# EAGLE library part ZIVA-PC (library zivapc)
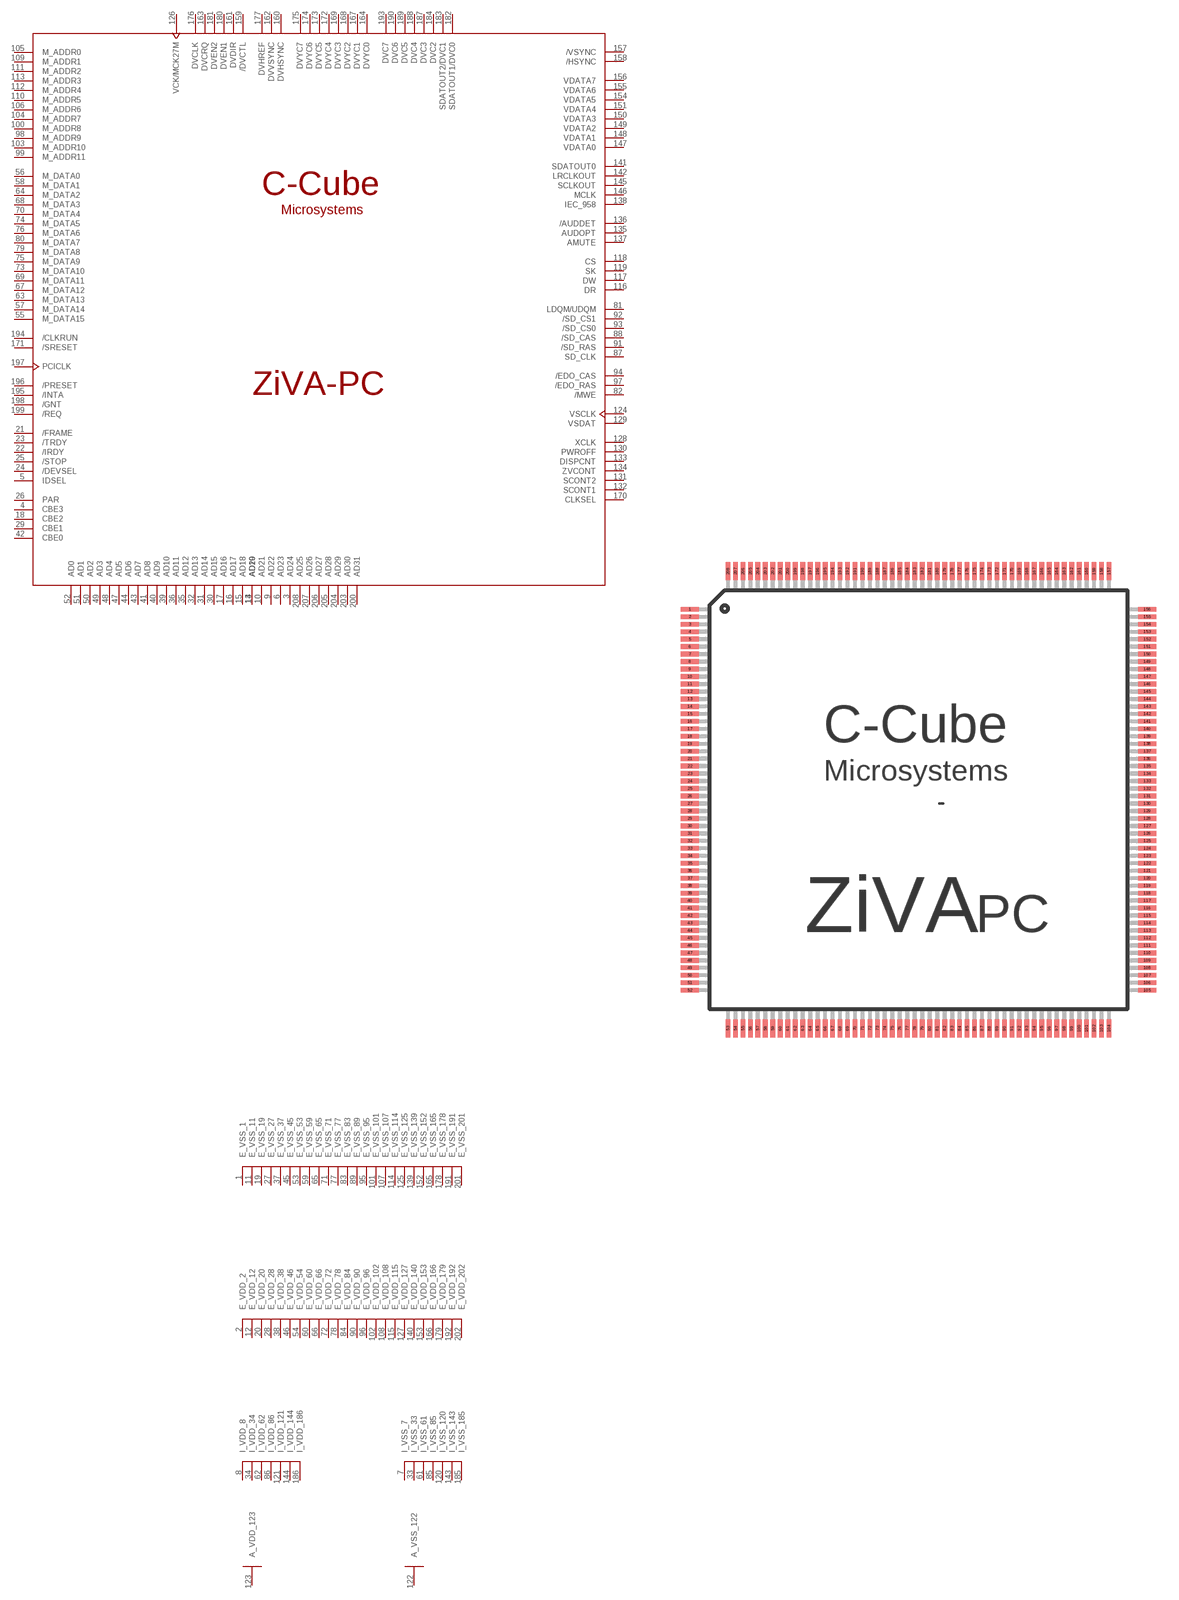
[diagram p0: symbol with the pads of PQFP208; footprint PQFP208]

Designator prefix -; gates G$1=ZIVA-PC G$2=ZIVA_PC_PWR

## ZIVA-PC  [PQFP208]
1  G$2:E_VSS_1  pwr
2  G$2:E_VDD_2  pwr
3  G$1:AD24
4  G$1:CBE3
5  G$1:IDSEL  out
6  G$1:AD23
7  G$2:I_VSS_7  pwr
8  G$2:I_VDD_8  pwr
9  G$1:AD22
10  G$1:AD21
11  G$2:E_VSS_11  pwr
12  G$2:E_VDD_12  pwr
13  G$1:AD20
14  G$1:AD19
15  G$1:AD18
16  G$1:AD17
17  G$1:AD16
18  G$1:CBE2
19  G$2:E_VSS_19  pwr
20  G$2:E_VDD_20  pwr
21  G$1:/FRAME
22  G$1:/IRDY
23  G$1:/TRDY
24  G$1:/DEVSEL
25  G$1:/STOP
26  G$1:PAR
27  G$2:E_VSS_27  pwr
28  G$2:E_VDD_28  pwr
29  G$1:CBE1
30  G$1:AD15
31  G$1:AD14
32  G$1:AD13
33  G$2:I_VSS_33  pwr
34  G$2:I_VDD_34  pwr
35  G$1:AD12
36  G$1:AD11
37  G$2:E_VSS_37  pwr
38  G$2:E_VDD_38  pwr
39  G$1:AD10
40  G$1:AD9
41  G$1:AD8
42  G$1:CBE0
43  G$1:AD7
44  G$1:AD6
45  G$2:E_VSS_45  pwr
46  G$2:E_VDD_46  pwr
47  G$1:AD5
48  G$1:AD4
49  G$1:AD3
50  G$1:AD2
51  G$1:AD1
52  G$1:AD0
53  G$2:E_VSS_53  pwr
54  G$2:E_VDD_54  pwr
55  G$1:M_DATA15
56  G$1:M_DATA0
57  G$1:M_DATA14
58  G$1:M_DATA1
59  G$2:E_VSS_59  pwr
60  G$2:E_VDD_60  pwr
61  G$2:I_VSS_61  pwr
62  G$2:I_VDD_62  pwr
63  G$1:M_DATA13
64  G$1:M_DATA2
65  G$2:E_VSS_65  pwr
66  G$2:E_VDD_66  pwr
67  G$1:M_DATA12
68  G$1:M_DATA3
69  G$1:M_DATA11
70  G$1:M_DATA4
71  G$2:E_VSS_71  pwr
72  G$2:E_VDD_72  pwr
73  G$1:M_DATA10
74  G$1:M_DATA5
75  G$1:M_DATA9
76  G$1:M_DATA6
77  G$2:E_VSS_77  pwr
78  G$2:E_VDD_78  pwr
79  G$1:M_DATA8
80  G$1:M_DATA7
81  G$1:LDQM/UDQM  out
82  G$1:/MWE  out
83  G$2:E_VSS_83  pwr
84  G$2:E_VDD_84  pwr
85  G$2:I_VSS_85  pwr
86  G$2:I_VDD_86  pwr
87  G$1:SD_CLK  out
88  G$1:/SD_CAS  out
89  G$2:E_VSS_89  pwr
90  G$2:E_VDD_90  pwr
91  G$1:/SD_RAS  out
92  G$1:/SD_CS1  out
93  G$1:/SD_CS0  out
94  G$1:/EDO_CAS  out
95  G$2:E_VSS_95  pwr
96  G$2:E_VDD_96  pwr
97  G$1:/EDO_RAS  out
98  G$1:M_ADDR9
99  G$1:M_ADDR11
100  G$1:M_ADDR8
101  G$2:E_VSS_101  pwr
102  G$2:E_VDD_102  pwr
103  G$1:M_ADDR10
104  G$1:M_ADDR7
105  G$1:M_ADDR0
106  G$1:M_ADDR6
107  G$2:E_VSS_107  pwr
108  G$2:E_VDD_108  pwr
109  G$1:M_ADDR1
110  G$1:M_ADDR5
111  G$1:M_ADDR2
112  G$1:M_ADDR4
113  G$1:M_ADDR3
114  G$2:E_VSS_114  pwr
115  G$2:E_VDD_115  pwr
116  G$1:DR  in
117  G$1:DW  out
118  G$1:CS  out
119  G$1:SK  out
120  G$2:I_VSS_120  pwr
121  G$2:I_VDD_121  pwr
122  G$2:A_VSS_122  pwr
123  G$2:A_VDD_123  pwr
124  G$1:VSCLK  in
125  G$2:E_VSS_125  pwr
126  G$1:VCK/MCK27M  in
127  G$2:E_VDD_127  pwr
128  G$1:XCLK
129  G$1:VSDAT
130  G$1:PWROFF
131  G$1:SCONT2
132  G$1:SCONT1
133  G$1:DISPCNT
134  G$1:ZVCONT
135  G$1:AUDOPT
136  G$1:/AUDDET
137  G$1:AMUTE  out
138  G$1:IEC_958  out
139  G$2:E_VSS_139  pwr
140  G$2:E_VDD_140  pwr
141  G$1:SDATOUT0  out
142  G$1:LRCLKOUT  out
143  G$2:I_VSS_143  pwr
144  G$2:I_VDD_144  pwr
145  G$1:SCLKOUT  out
146  G$1:MCLK
147  G$1:VDATA0
148  G$1:VDATA1
149  G$1:VDATA2
150  G$1:VDATA3
151  G$1:VDATA4
152  G$2:E_VSS_152  pwr
153  G$2:E_VDD_153  pwr
154  G$1:VDATA5
155  G$1:VDATA6
156  G$1:VDATA7
157  G$1:/VSYNC  in
158  G$1:/HSYNC  in
159  G$1:/DVCTL
160  G$1:DVHSYNC
161  G$1:DVDIR
162  G$1:DVVSYNC
163  G$1:DVCRQ
164  G$1:DVYC0
165  G$2:E_VSS_165  pwr
166  G$2:E_VDD_166  pwr
167  G$1:DVYC1
168  G$1:DVYC2
169  G$1:DVYC3
170  G$1:CLKSEL
171  G$1:/SRESET
172  G$1:DVYC4
173  G$1:DVYC5
174  G$1:DVYC6
175  G$1:DVYC7
176  G$1:DVCLK
177  G$1:DVHREF
178  G$2:E_VSS_178  pwr
179  G$2:E_VDD_179  pwr
180  G$1:DVEN1
181  G$1:DVEN2
182  G$1:SDATOUT1/DVC0
183  G$1:SDATOUT2/DVC1
184  G$1:DVC2  out
185  G$2:I_VSS_185  pwr
186  G$2:I_VDD_186  pwr
187  G$1:DVC3
188  G$1:DVC4
189  G$1:DVC5
190  G$1:DVC6
191  G$2:E_VSS_191  pwr
192  G$2:E_VDD_192  pwr
193  G$1:DVC7
194  G$1:/CLKRUN
195  G$1:/INTA  out
196  G$1:/PRESET
197  G$1:PCICLK  in
198  G$1:/GNT
199  G$1:/REQ
200  G$1:AD31
201  G$2:E_VSS_201  pwr
202  G$2:E_VDD_202  pwr
203  G$1:AD30
204  G$1:AD29
205  G$1:AD28
206  G$1:AD27
207  G$1:AD26
208  G$1:AD25

## Footprint PQFP208 (pad centres in mm)
Plastic Quad Flat Pack
smd 1.2 x 0.32: 1 -15.3,12.75; 2 -15.3,12.25; 3 -15.3,11.75; 4 -15.3,11.25; 5 -15.3,10.75; 6 -15.3,10.25; 7 -15.3,9.75; 8 -15.3,9.25; 9 -15.3,8.75; 10 -15.3,8.25; 11 -15.3,7.75; 12 -15.3,7.25; 13 -15.3,6.75; 14 -15.3,6.25; 15 -15.3,5.75; 16 -15.3,5.25; 17 -15.3,4.75; 18 -15.3,4.25; 19 -15.3,3.75; 20 -15.3,3.25; 21 -15.3,2.75; 22 -15.3,2.25; 23 -15.3,1.75; 24 -15.3,1.25; 25 -15.3,0.75; 26 -15.3,0.25; 27 -15.3,-0.25; 28 -15.3,-0.75; 29 -15.3,-1.25; 30 -15.3,-1.75; 31 -15.3,-2.25; 32 -15.3,-2.75; 33 -15.3,-3.25; 34 -15.3,-3.75; 35 -15.3,-4.25; 36 -15.3,-4.75; 37 -15.3,-5.25; 38 -15.3,-5.75; 39 -15.3,-6.25; 40 -15.3,-6.75; 41 -15.3,-7.25; 42 -15.3,-7.75; 43 -15.3,-8.25; 44 -15.3,-8.75; 45 -15.3,-9.25; 46 -15.3,-9.75; 47 -15.3,-10.25; 48 -15.3,-10.75; 49 -15.3,-11.25; 50 -15.3,-11.75; 51 -15.3,-12.25; 52 -15.3,-12.75; 105 15.3,-12.75; 106 15.3,-12.25; 107 15.3,-11.75; 108 15.3,-11.25; 109 15.3,-10.75; 110 15.3,-10.25; 111 15.3,-9.75; 112 15.3,-9.25; 113 15.3,-8.75; 114 15.3,-8.25; 115 15.3,-7.75; 116 15.3,-7.25; 117 15.3,-6.75; 118 15.3,-6.25; 119 15.3,-5.75; 120 15.3,-5.25; 121 15.3,-4.75; 122 15.3,-4.25; 123 15.3,-3.75; 124 15.3,-3.25; 125 15.3,-2.75; 126 15.3,-2.25; 127 15.3,-1.75; 128 15.3,-1.25; 129 15.3,-0.75; 130 15.3,-0.25; 131 15.3,0.25; 132 15.3,0.75; 133 15.3,1.25; 134 15.3,1.75; 135 15.3,2.25; 136 15.3,2.75; 137 15.3,3.25; 138 15.3,3.75; 139 15.3,4.25; 140 15.3,4.75; 141 15.3,5.25; 142 15.3,5.75; 143 15.3,6.25; 144 15.3,6.75; 145 15.3,7.25; 146 15.3,7.75; 147 15.3,8.25; 148 15.3,8.75; 149 15.3,9.25; 150 15.3,9.75; 151 15.3,10.25; 152 15.3,10.75; 153 15.3,11.25; 154 15.3,11.75; 155 15.3,12.25; 156 15.3,12.75
smd 0.32 x 1.2: 53 -12.75,-15.3; 54 -12.25,-15.3; 55 -11.75,-15.3; 56 -11.25,-15.3; 57 -10.75,-15.3; 58 -10.25,-15.3; 59 -9.75,-15.3; 60 -9.25,-15.3; 61 -8.75,-15.3; 62 -8.25,-15.3; 63 -7.75,-15.3; 64 -7.25,-15.3; 65 -6.75,-15.3; 66 -6.25,-15.3; 67 -5.75,-15.3; 68 -5.25,-15.3; 69 -4.75,-15.3; 70 -4.25,-15.3; 71 -3.75,-15.3; 72 -3.25,-15.3; 73 -2.75,-15.3; 74 -2.25,-15.3; 75 -1.75,-15.3; 76 -1.25,-15.3; 77 -0.75,-15.3; 78 -0.25,-15.3; 79 0.25,-15.3; 80 0.75,-15.3; 81 1.25,-15.3; 82 1.75,-15.3; 83 2.25,-15.3; 84 2.75,-15.3; 85 3.25,-15.3; 86 3.75,-15.3; 87 4.25,-15.3; 88 4.75,-15.3; 89 5.25,-15.3; 90 5.75,-15.3; 91 6.25,-15.3; 92 6.75,-15.3; 93 7.25,-15.3; 94 7.75,-15.3; 95 8.25,-15.3; 96 8.75,-15.3; 97 9.25,-15.3; 98 9.75,-15.3; 99 10.25,-15.3; 100 10.75,-15.3; 101 11.25,-15.3; 102 11.75,-15.3; 103 12.25,-15.3; 104 12.75,-15.3; 157 12.75,15.3; 158 12.25,15.3; 159 11.75,15.3; 160 11.25,15.3; 161 10.75,15.3; 162 10.25,15.3; 163 9.75,15.3; 164 9.25,15.3; 165 8.75,15.3; 166 8.25,15.3; 167 7.75,15.3; 168 7.25,15.3; 169 6.75,15.3; 170 6.25,15.3; 171 5.75,15.3; 172 5.25,15.3; 173 4.75,15.3; 174 4.25,15.3; 175 3.75,15.3; 176 3.25,15.3; 177 2.75,15.3; 178 2.25,15.3; 179 1.75,15.3; 180 1.25,15.3; 181 0.75,15.3; 182 0.25,15.3; 183 -0.25,15.3; 184 -0.75,15.3; 185 -1.25,15.3; 186 -1.75,15.3; 187 -2.25,15.3; 188 -2.75,15.3; 189 -3.25,15.3; 190 -3.75,15.3; 191 -4.25,15.3; 192 -4.75,15.3; 193 -5.25,15.3; 194 -5.75,15.3; 195 -6.25,15.3; 196 -6.75,15.3; 197 -7.25,15.3; 198 -7.75,15.3; 199 -8.25,15.3; 200 -8.75,15.3; 201 -9.25,15.3; 202 -9.75,15.3; 203 -10.25,15.3; 204 -10.75,15.3; 205 -11.25,15.3; 206 -11.75,15.3; 207 -12.25,15.3; 208 -12.75,15.3